# EAGLE library part DS8298 (library BaseApp)
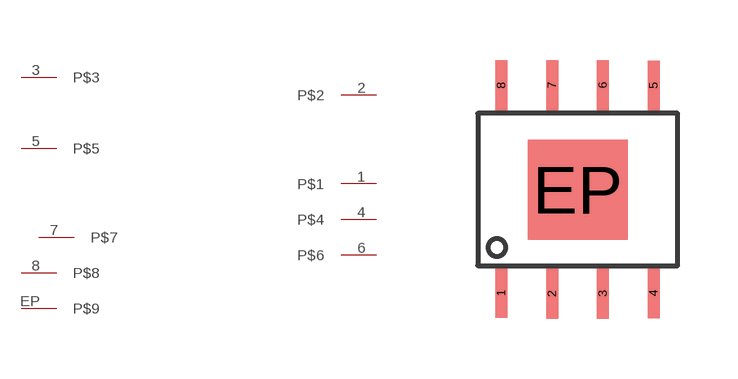
[diagram p163: symbol with the pads of SOP-8; footprint SOP-8]

Designator prefix -

## DS8298-6A_ADJUSTABLE_BUCK (DIGIKEY: 1028-1157-1-ND; PRICE_PER_UNIT: 1.13)  [SOP-8]
1  P$1
2  P$2
3  P$3
4  P$4
5  P$5
6  P$6
7  P$7
8  P$8
EP  P$9

## Footprint SOP-8 (pad centres in mm)
smd 0.3 x 1.25: 1 -1.905,-2.585; 2 -0.635,-2.603; 3 0.635,-2.603; 4 1.905,-2.594; 5 1.905,2.596; 6 0.635,2.613; 7 -0.635,2.613; 8 -1.905,2.604
smd 2.5 x 2.5: EP 0,0